# Altium integrated library Infineon_Power_IGBT.IntLib: 226 symbols (part 3 of 8)
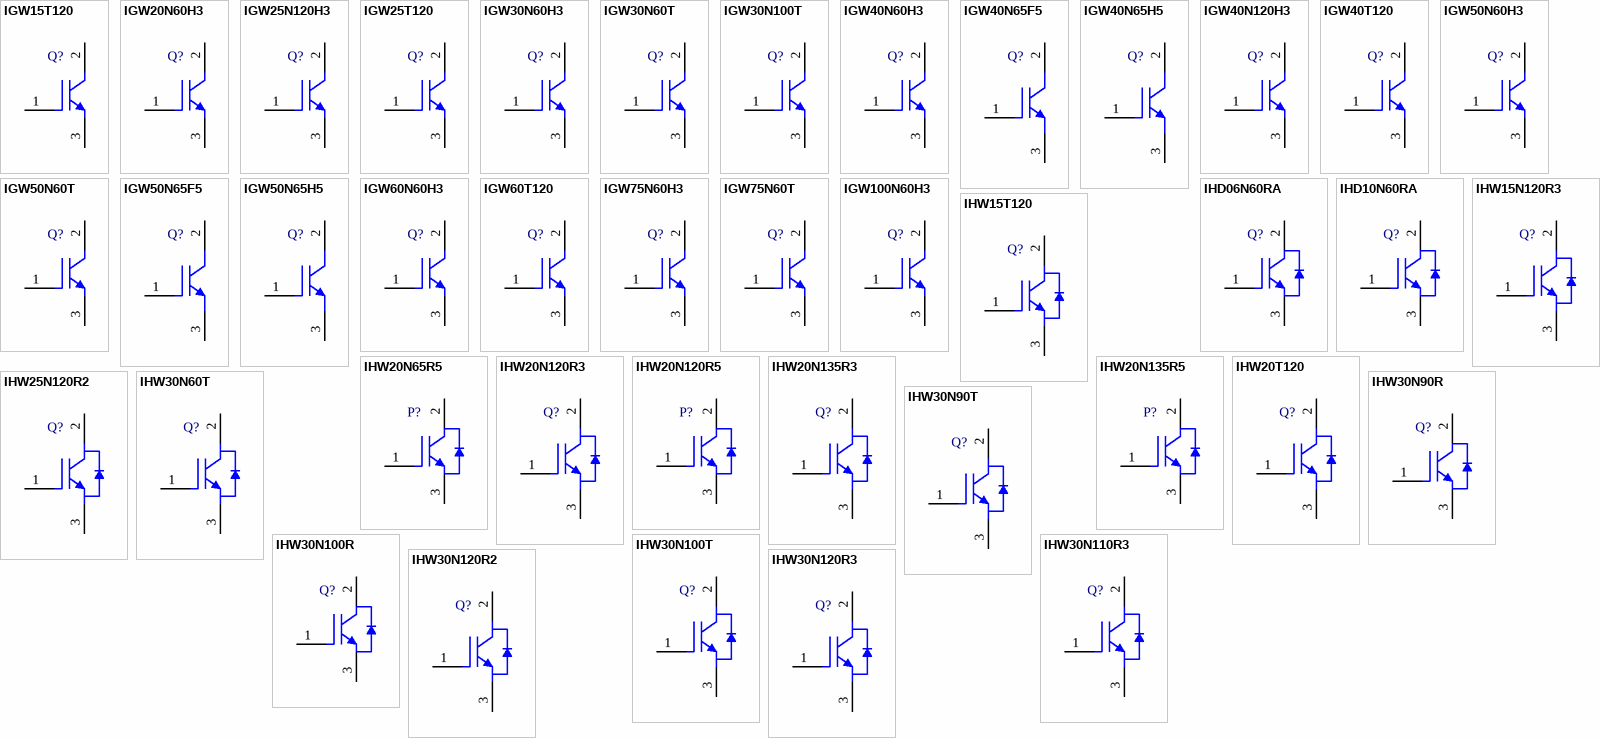
[diagram p7: symbols IGW15T120 to IHW30N120R3]

## IHW20T120
designator Q?
1200 V IGBT in TrenchStop and Fieldstop Technology with Soft, Fast Recovery Anti-Parallel EmCon HE Diode, 40 A IC, -40 to 150 degC, PG-TO247-3-21, Tube, Green; Manufacturer: Infineon; PartNumber: IHW20T120; Eoff (typ): 1.5 mJ; Eon (typ): 1.8 mJ; Green: TRUE; IC(max) @ 100degrees: 20 A; IC(max) @ 25degrees: 40 A; ICpuls (max): 60 A; IF (max): 23 A; IFpuls (max): 36 A; Irrm (typ): 13.3 A; Ptot (max): 178 W; QGate (typ): 120 nC; Qrr (typ): 950 nC; Switching Frequency: RC Soft Switching Series 8-60 kHz; td(off) (typ): 560 ns; td(on) (typ): 50 ns; tf (typ): 70 ns; tr (typ): 30 ns; VCE (max): 1,200 V; VCE(sat) (typ): 1.7 V; DatasheetVersion: Rev. 2.2; PackageVersion: Oct-07; PackageReference: PG-TO247-3-21; PackageDescription: 3-Pin Plastic (Green) Transistor Single Outline Package, 15.87 x 20.96 mm Body, 5.44 mm Pitch; Supplier 1: Mouser; Supplier Part Number 1: 726-IHW20T120; Supplier 2: Digi-Key; Supplier Part Number 2: IHW20T120-ND; Halogen-free: available; Packing: Tube; VF (typ): 1.7 V; Mounting Technology: Through Hole; ComponentLink1Description: Manufacturer URL; ComponentLink1URL: http://www.infineon.com/; ComponentLink2Description: Datasheet; ComponentLink2URL: http://www.infineon.com/dgdl/IHW20T120_D09_Rev2_2G.pdf?folderId=db3a304412b407950112b408e8c90004&fileId=db3a304412b407950112b4272af63bc3&location=en.Products.IGBTs.IGBT_with_Anti-Parallel_Diode.TRENCHSTOP__IGBT_for_Soft_Switching.DATASHEET.IHW20T120_D09_Rev2_2G.pdf; ComponentLink3Description: Package Specification; ComponentLink3URL: http://www.infineon.com/dgdl/DS_IK30N100T_1_1.pdf?folderId=db3a304412b407950112b408e8c90004&fileId=db3a304316f66ee80116f7b6e3920050&location=en.Products.IGBTs.IGBT_with_Anti-Parallel_Diode.TRENCHSTOP__IGBT_for_Hard_Switching.DATASHEET.DS_IK30N100T_1_1.pdf
footprint INF-PG-TO247-3-21 (FM, 3-Leads, Body 5.03x15.87mm, Pitch 5.44mm)
pins: 1 G, 2 C, 3 E

## IHW25N120R2
designator Q?
1200 V Reverse Conducting IGBT with Monolithic Body Diode, 50 A IC, -40 to 175 degC, PG-TO247-3-44, Tube, Green; Manufacturer: Infineon; PartNumber: IHW25N120R2; Eoff (typ): 1.59 mJ; Green: TRUE; IC(max) @ 100degrees: 25 A; IC(max) @ 25degrees: 50 A; ICpuls (max): 75 A; Ptot (max): 365 W; QGate (typ): 60.7 nC; Switching Frequency: RC Soft Switching Series 8-60 kHz; td(off) (typ): 324 ns; tf (typ): 55.8 ns; VCE (max): 1,200 V; VCE(sat) (typ): 1.6 V; VF (typ): 1.5 V; DatasheetVersion: Rev. 2.3; PackageVersion: Rev. 03; PackageReference: PG-TO247-3-44; PackageDescription: 3-Pin Plastic (Green) Transistor Single Outline Package, 15.94 x 20.95 mm Body, 5.44 mm Pitch; Supplier 1: Mouser; Supplier Part Number 1: 726-IHW25N120R2; Supplier 2: Digi-Key; Supplier Part Number 2: IHW25N120R2-ND; Halogen-free: available; IF (max): 50 A; IFpuls (max): 75 A; Packing: Tube; Mounting Technology: Through Hole; ComponentLink1Description: Manufacturer URL; ComponentLink1URL: http://www.infineon.com/; ComponentLink2Description: Datasheet; ComponentLink2URL: http://www.infineon.com/dgdl/IHW25N120R2_Rev2_3G.pdf?folderId=db3a304412b407950112b408e8c90004&fileId=db3a304412b407950112b428a7573e45&location=en.Products.IGBTs.IGBT_with_Anti-Parallel_Diode.TRENCHSTOP__IGBT_for_Soft_Switching.DATASHEET.IHW25N120R2_Rev2_3G.pdf; ComponentLink3Description: Package Specification; ComponentLink3URL: http://www.infineon.com/cms/packages/Leaded_and_through-hole/P-PG-TO247/P-PG-TO247-3-44.html?__locale=en
footprint INF-PG-TO247-3-44 (FM, 3-Leads, Body 5.02x15.94mm, Pitch 5.44mm)
pins: 1 G, 2 C, 3 E

## IHW30N60T
designator Q?
600 V IGBT in TrenchStop Technology with Optimised Diode, 60 A IC, -40 to 175 degC, PG-TO247-3-44, Tube, Green; Manufacturer: Infineon; PartNumber: IHW30N60T; Eoff (typ): 0.77 mJ; Green: TRUE; IC(max) @ 100degrees: 30 A; IC(max) @ 25degrees: 60 A; ICpuls (max): 90 A; IF (max): 23 A; Ptot (max): 187 W; QGate (typ): 167 nC; Switching Frequency: TRENCHSTOP 2-20kHz; td(off) (typ): 254 ns; td(on) (typ): 23 ns; tf (typ): 46 ns; tr (typ): 21 ns; VCE (max): 600 V; VCE(sat) (typ): 1.5 V; VF (typ): 1.1 V; DatasheetVersion: Rev. 2.2; PackageVersion: Rev. 03; PackageReference: PG-TO247-3-44; PackageDescription: 3-Pin Plastic (Green) Transistor Single Outline Package, 15.94 x 20.95 mm Body, 5.44 mm Pitch; Supplier 1: Mouser; Supplier Part Number 1: 726-IHW30N60T; Supplier 2: Digi-Key; Supplier Part Number 2: IHW30N60T-ND; Halogen-free: available; IFpuls (max): 30 A; Packing: Tube; Mounting Technology: Through Hole; ComponentLink1Description: Manufacturer URL; ComponentLink1URL: http://www.infineon.com/; ComponentLink2Description: Datasheet; ComponentLink2URL: http://www.infineon.com/dgdl/IHW30N60T-D10+Rev2_2.pdf?folderId=db3a304412b407950112b408e8c90004&fileId=db3a304412b407950112b428baac3e61; ComponentLink3Description: Package Specification; ComponentLink3URL: http://www.infineon.com/cms/packages/Leaded_and_through-hole/P-PG-TO247/P-PG-TO247-3-44.html?__locale=en
footprint INF-PG-TO247-3-44 (FM, 3-Leads, Body 5.02x15.94mm, Pitch 5.44mm)
pins: 1 G, 2 C, 3 E

## IHW30N90R
designator Q?
Reverse Conducting IGBT with Monolithic Body Diode, PG-TO247-3-21, Tube, Green; Manufacturer: Infineon; PartNumber: IHW30N90R; Green: TRUE; IC(max) @ 100 degC: 30 A; IC(max) @ 25 degC: 60 A; Switching Frequency: RC Soft Switching Series 8-60 kHz; VCE (max): 900 V; VCE(sat) (typ): 1.7 V; DatasheetVersion: Rev. 2.2; PackageVersion: Oct-07; PackageReference: PG-TO247-3-21; PackageDescription: 3-Pin Plastic (Green) Transistor Single Outline Package, 15.87 x 20.96 mm Body, 5.44 mm Pitch; Supplier 1: Mouser; Supplier Part Number 1: 726-IHW30N90R; Supplier 2: Digi-Key; Supplier Part Number 2: IHW30N90R-ND; Halogen-free: FALSE; Packing: Tube; Mounting Technology: Through Hole; ComponentLink1Description: Manufacturer URL; ComponentLink1URL: http://www.infineon.com/; ComponentLink2Description: Datasheet; ComponentLink2URL: http://www.infineon.com/dgdl/IHW30N90R_Rev2_2.pdf?folderId=db3a304412b407950112b408e8c90004&fileId=db3a304412b407950112b428b5443e59&location=en.Products.IGBTs.IGBT_with_Anti-Parallel_Diode.TRENCHSTOP__IGBT_for_Soft_Switching.DATASHEET.IHW30N90R_Rev2_2.pdf; ComponentLink3Description: Package Specification; ComponentLink3URL: http://www.infineon.com/dgdl/DS_IK30N100T_1_1.pdf?folderId=db3a304412b407950112b408e8c90004&fileId=db3a304316f66ee80116f7b6e3920050&location=en.Products.IGBTs.IGBT_with_Anti-Parallel_Diode.TRENCHSTOP__IGBT_for_Hard_Switching.DATASHEET.DS_IK30N100T_1_1.pdf
footprint INF-PG-TO247-3-21 (FM, 3-Leads, Body 5.03x15.87mm, Pitch 5.44mm)
pins: 1 G, 2 C, 3 E

## IHW30N90T
designator Q?
900 V IGBT in TrenchStop and Fieldstop Technology with Anti-Parallel Diode, 60 A IC, -40 to 175 degC, PG-TO247-3-44, Tube, Green; Manufacturer: Infineon; PartNumber: IHW30N90T; Eoff (typ): 1.8 mJ; Green: TRUE; IC(max) @ 100degrees: 30 A; IC(max) @ 25degrees: 60 A; ICpuls (max): 90 A; IF (max): 23 A; IFpuls (max): 36 A; Ptot (max): 428 W; QGate (typ): 280 nC; Switching Frequency: TRENCHSTOP 2-20kHz; td(off) (typ): 556 ns; td(on) (typ): 45 ns; tf (typ): 29 ns; tr (typ): 26 ns; VCE (max): 900 V; VCE(sat) (typ): 1.5 V; VF (typ): 1.1 V; DatasheetVersion: Rev. 2.3; PackageVersion: Rev. 03; PackageReference: PG-TO247-3-44; PackageDescription: 3-Pin Plastic (Green) Transistor Single Outline Package, 15.94 x 20.95 mm Body, 5.44 mm Pitch; Supplier 1: Mouser; Supplier Part Number 1: 726-IHW30N90T; Supplier 2: Newark; Supplier Part Number 2: 13T9433; Supplier 3: Farnell; Supplier Part Number 3: 1832367; Supplier 4: Digi-Key; Supplier Part Number 4: IHW30N90T-ND; Halogen-free: available; Packing: Tube; Mounting Technology: Through Hole; ComponentLink1Description: Manufacturer URL; ComponentLink1URL: http://www.infineon.com/; ComponentLink2Description: Datasheet; ComponentLink2URL: http://www.infineon.com/dgdl/IHW30N90T_D10_Rev2_3.pdf?folderId=db3a304412b407950112b408e8c90004&fileId=db3a304412b407950112b428b7f93e5d&location=en.Products.IGBTs.IGBT_with_Anti-Parallel_Diode.TRENCHSTOP__IGBT_for_Soft_Switching.DATASHEET.IHW30N90T_D10_Rev2_3.pdf; ComponentLink3Description: Package Specification; ComponentLink3URL: http://www.infineon.com/cms/packages/Leaded_and_through-hole/P-PG-TO247/P-PG-TO247-3-44.html?__locale=en
footprint INF-PG-TO247-3-44 (FM, 3-Leads, Body 5.02x15.94mm, Pitch 5.44mm)
pins: 1 G, 2 C, 3 E

## IHW30N100R
designator Q?
Reverse Conducting IGBT with Monolithic Body Diode, PG-TO247-3-21, Tube, Green; Manufacturer: Infineon; PartNumber: IHW30N100R; Green: TRUE; IC(max) @ 100 degC: 30 A; IC(max) @ 25 degC: 60 A; Switching Frequency: RC Soft Switching Series 8-60 kHz; VCE (max): 1,000 V; VCE(sat) (typ): 1.75 V; DatasheetVersion: Rev. 2.2; PackageVersion: Oct-07; PackageReference: PG-TO247-3-21; PackageDescription: 3-Pin Plastic (Green) Transistor Single Outline Package, 15.87 x 20.96 mm Body, 5.44 mm Pitch; Supplier 1: Mouser; Supplier Part Number 1: 726-IHW30N100R; Supplier 2: Digi-Key; Supplier Part Number 2: IHW30N100R-ND; Halogen-free: FALSE; Packing: Tube; Mounting Technology: Through Hole; ComponentLink1Description: Manufacturer URL; ComponentLink1URL: http://www.infineon.com/; ComponentLink2Description: Datasheet; ComponentLink2URL: http://www.infineon.com/dgdl/IHW30N100R_Rev2_2.pdf?folderId=db3a304412b407950112b408e8c90004&fileId=db3a304412b407950112b428afd13e51&location=en.Products.IGBTs.IGBT_with_Anti-Parallel_Diode.TRENCHSTOP__IGBT_for_Soft_Switching.DATASHEET.IHW30N100R_Rev2_2.pdf; ComponentLink3Description: Package Specification; ComponentLink3URL: http://www.infineon.com/dgdl/DS_IK30N100T_1_1.pdf?folderId=db3a304412b407950112b408e8c90004&fileId=db3a304316f66ee80116f7b6e3920050&location=en.Products.IGBTs.IGBT_with_Anti-Parallel_Diode.TRENCHSTOP__IGBT_for_Hard_Switching.DATASHEET.DS_IK30N100T_1_1.pdf
footprint INF-PG-TO247-3-21 (FM, 3-Leads, Body 5.03x15.87mm, Pitch 5.44mm)
pins: 1 G, 2 C, 3 E

## IHW30N100T
designator Q?
1000 V IGBT in TrenchStop and Fieldstop Technology with Anti-Parallel Diode, 60 A IC, -40 to 175 degC, PG-TO247-3-44, Tube, Green; Manufacturer: Infineon; PartNumber: IHW30N100T; Eoff (typ): 1.6 mJ; Eon (typ): 2.1 mJ; Green: TRUE; IC(max) @ 100degrees: 30 A; IC(max) @ 25degrees: 60 A; ICpuls (max): 90 A; IF (max): 22 A; IFpuls (max): 36 A; Ptot (max): 412 W; QGate (typ): 217 nC; Switching Frequency: TRENCHSTOP 2-20kHz; td(off) (typ): 546 ns; td(on) (typ): 35 ns; tf (typ): 27 ns; tr (typ): 22 ns; VCE (max): 1,000 V; VCE(sat) (typ): 1.55 V; VF (typ): 1.1 V; DatasheetVersion: Rev. 2.7; PackageVersion: Rev. 03; PackageReference: PG-TO247-3-44; PackageDescription: 3-Pin Plastic (Green) Transistor Single Outline Package, 15.94 x 20.95 mm Body, 5.44 mm Pitch; Supplier 1: Mouser; Supplier Part Number 1: 726-IHW30N100T; Supplier 2: Digi-Key; Supplier Part Number 2: IHW30N100T-ND; Halogen-free: available; Packing: Tube; Mounting Technology: Through Hole; ComponentLink1Description: Manufacturer URL; ComponentLink1URL: http://www.infineon.com/; ComponentLink2Description: Datasheet; ComponentLink2URL: http://www.infineon.com/dgdl/IHW30N100T_Rev2_7.pdf?folderId=db3a304412b407950112b408e8c90004&fileId=db3a304412b407950112b428b2863e55&location=en.Products.IGBTs.IGBT_with_Anti-Parallel_Diode.TRENCHSTOP__IGBT_for_Soft_Switching.DATASHEET.IHW30N100T_Rev2_7.pdf; ComponentLink3Description: Package Specification; ComponentLink3URL: http://www.infineon.com/cms/packages/Leaded_and_through-hole/P-PG-TO247/P-PG-TO247-3-44.html?__locale=en
footprint INF-PG-TO247-3-44 (FM, 3-Leads, Body 5.02x15.94mm, Pitch 5.44mm)
pins: 1 G, 2 C, 3 E

## IHW30N110R3
designator Q?
1100 V Reverse Conducting IGBT with Monolithic Body Diode, 60 A IC, -40 to 175 degC, PG-TO247-3-44, Tube, Green; Manufacturer: Infineon; PartNumber: IHW30N110R3; Eoff (typ): 1.15 mJ; Green: TRUE; IC(max) @ 100degrees: 30 A; IC(max) @ 25degrees: 60 A; ICpuls (max): 90 A; Ptot (max): 333 W; QGate (typ): 180 nC; Switching Frequency: RC Soft Switching Series 8-60 kHz; td(off) (typ): 350 ns; tf (typ): 16 ns; VCE (max): 1,100 V; VCE(sat) (typ): 1.55 V; VF (typ): 1.35 V; DatasheetVersion: Rev. 1.3; PackageVersion: Rev. 03; PackageReference: PG-TO247-3-44; PackageDescription: 3-Pin Plastic (Green) Transistor Single Outline Package, 15.94 x 20.95 mm Body, 5.44 mm Pitch; Supplier 1: Mouser; Supplier Part Number 1: 726-IHW30N110R3; Supplier 2: Digi-Key; Supplier Part Number 2: IHW30N110R3-ND; Halogen-free: TRUE; IF (max): 60 A; IFpuls (max): 90 A; Packing: Tube; Mounting Technology: Through Hole; ComponentLink1Description: Manufacturer URL; ComponentLink1URL: http://www.infineon.com/; ComponentLink2Description: Datasheet; ComponentLink2URL: http://www.infineon.com/dgdl/DS_IHW30N110R3_1_3.pdf?folderId=db3a3043156fd5730115f56849b61941&fileId=db3a304327b897500127b963455e0089&location=en.Products.IGBTs.IGBT_with_Anti-Parallel_Diode.TRENCHSTOP__IGBT_for_Soft_Switching.DATASHEET.DS_IHW30N110R3_1_3.pdf; ComponentLink3Description: Package Specification; ComponentLink3URL: http://www.infineon.com/cms/packages/Leaded_and_through-hole/P-PG-TO247/P-PG-TO247-3-44.html?__locale=en
footprint INF-PG-TO247-3-44 (FM, 3-Leads, Body 5.02x15.94mm, Pitch 5.44mm)
pins: 1 G, 2 C, 3 E

## IHW30N120R2
designator Q?
1200 V Reverse Conducting IGBT with Monolithic Body Diode, 60 A IC, -40 to 175 degC, PG-TO247-3-44, Tube, Green; Manufacturer: Infineon; PartNumber: IHW30N120R2; Eoff (typ): 2.4 mJ; Green: TRUE; IC(max) @ 100degrees: 30 A; IC(max) @ 25degrees: 60 A; ICpuls (max): 90 A; Ptot (max): 390 W; QGate (typ): 198 nC; Switching Frequency: RC Soft Switching Series 8-60 kHz; td(off) (typ): 792 ns; tf (typ): 33 ns; VCE (max): 1,200 V; VCE(sat) (typ): 1.65 V; VF (typ): 1.55 V; DatasheetVersion: Rev. 1.5; PackageVersion: Rev. 03; PackageReference: PG-TO247-3-44; PackageDescription: 3-Pin Plastic (Green) Transistor Single Outline Package, 15.94 x 20.95 mm Body, 5.44 mm Pitch; Supplier 1: Mouser; Supplier Part Number 1: 726-IHW30N120R2; Supplier 2: Digi-Key; Supplier Part Number 2: IHW30N120R2-ND; Halogen-free: available; IF (max): 60 A; IFpuls (max): 90 A; Packing: Tube; Mounting Technology: Through Hole; ComponentLink1Description: Manufacturer URL; ComponentLink1URL: http://www.infineon.com/; ComponentLink2Description: Datasheet; ComponentLink2URL: http://www.infineon.com/dgdl/IHW30N120R2_Rev1_5G.pdf?folderId=db3a304412b407950112b408e8c90004&fileId=db3a304412b407950112b428aa6e3e49&location=en.Products.IGBTs.IGBT_with_Anti-Parallel_Diode.TRENCHSTOP__IGBT_for_Soft_Switching.DATASHEET.IHW30N120R2_Rev1_5G.pdf; ComponentLink3Description: Package Specification; ComponentLink3URL: http://www.infineon.com/cms/packages/Leaded_and_through-hole/P-PG-TO247/P-PG-TO247-3-44.html?__locale=en
footprint INF-PG-TO247-3-44 (FM, 3-Leads, Body 5.02x15.94mm, Pitch 5.44mm)
pins: 1 G, 2 C, 3 E

## IHW30N120R3
designator Q?
1200 V Reverse Conducting IGBT with Monolithic Body Diode, 60 A IC, -40 to 175 degC, PG-TO247-3-44, Tube, Green; Manufacturer: Infineon; PartNumber: IHW30N120R3; Eoff (typ): 1.47 mJ; Green: TRUE; IC(max) @ 100degrees: 30 A; IC(max) @ 25degrees: 60 A; ICpuls (max): 90 A; Ptot (max): 349 W; QGate (typ): 263 nC; Switching Frequency: RC Soft Switching Series 8-60 kHz; td(off) (typ): 326 ns; tf (typ): 39 ns; VCE (max): 1,200 V; VCE(sat) (typ): 1.55 V; VF (typ): 1.6 V; DatasheetVersion: Rev. 2.2; PackageVersion: Rev. 03; PackageReference: PG-TO247-3-44; PackageDescription: 3-Pin Plastic (Green) Transistor Single Outline Package, 15.94 x 20.95 mm Body, 5.44 mm Pitch; Halogen-free: available; IF (max): 60 A; IFpuls (max): 90 A; Packing: Tube; Mounting Technology: Through Hole; ComponentLink1Description: Manufacturer URL; ComponentLink1URL: http://www.infineon.com/; ComponentLink2Description: Datasheet; ComponentLink2URL: http://www.infineon.com/dgdl/DS_IHW30N120R3_2_2.pdf?folderId=db3a3043156fd5730115f56849b61941&fileId=db3a30433a047ba0013a731f0e923aa7&location=en.Products.IGBTs.IGBT_with_Anti-Parallel_Diode.TRENCHSTOP__IGBT_for_Soft_Switching.DATASHEET.DS_IHW30N120R3_2_2.pdf; ComponentLink3Description: Package Specification; ComponentLink3URL: http://www.infineon.com/cms/packages/Leaded_and_through-hole/P-PG-TO247/P-PG-TO247-3-44.html?__locale=en
footprint INF-PG-TO247-3-44 (FM, 3-Leads, Body 5.02x15.94mm, Pitch 5.44mm)
pins: 1 G, 2 C, 3 E

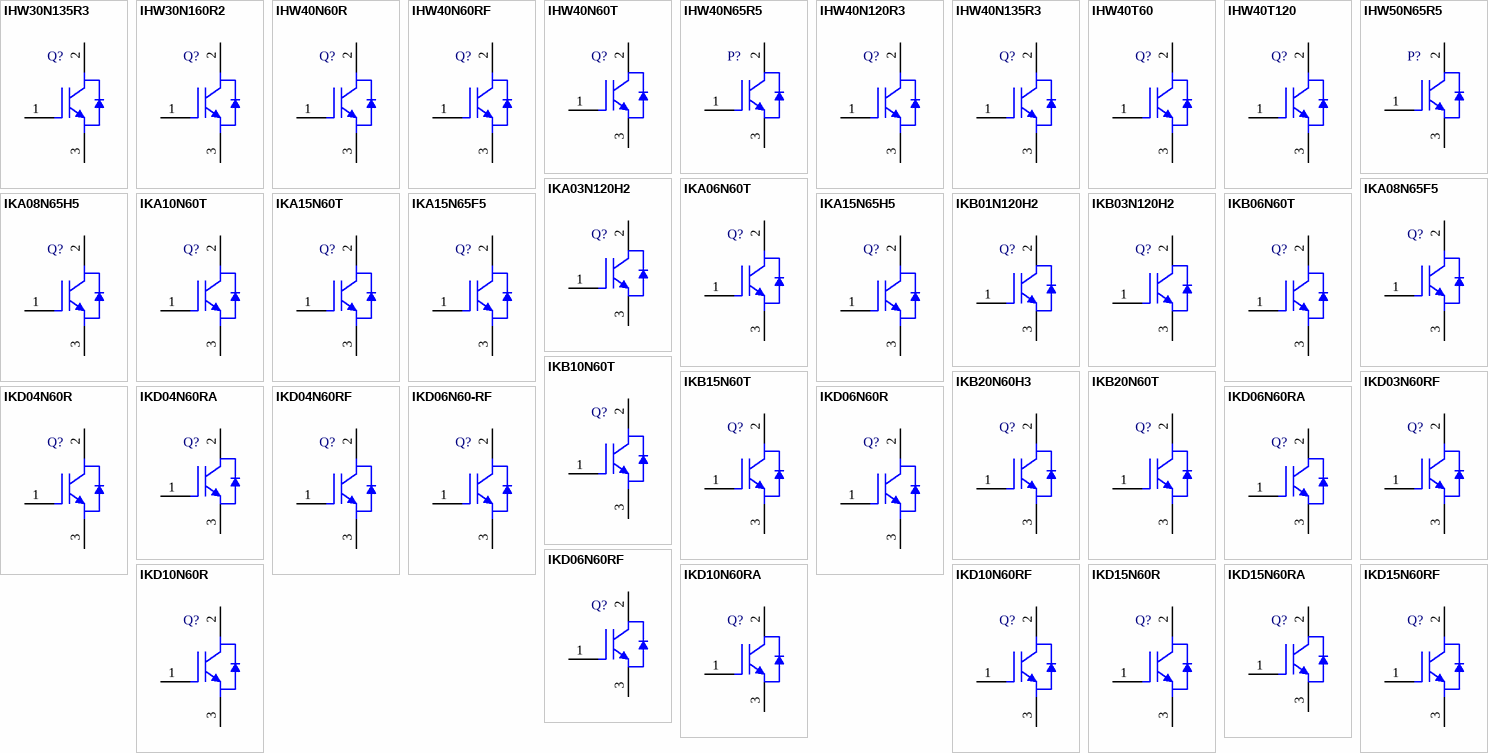
[diagram p2: symbols IHW30N135R3 to IKD15N60RF]

## IHW30N135R3
designator Q?
1350 V Reverse Conducting IGBT with Monolithic Body Diode, 60 A IC, -40 to 175 degC, PG-TO247-3-44, Tube, Green; Manufacturer: Infineon; PartNumber: IHW30N135R3; Eoff (typ): 1.93 mJ; Green: TRUE; IC(max) @ 100degrees: 30 A; IC(max) @ 25degrees: 60 A; ICpuls (max): 90 A; Ptot (max): 349 W; QGate (typ): 263 nC; Switching Frequency: RC Soft Switching Series 8-60 kHz; td(off) (typ): 337 ns; tf (typ): 47 ns; VCE (max): 1,350 V; VCE(sat) (typ): 1.65 V; DatasheetVersion: Rev. 2.1; PackageVersion: Rev. 03; PackageReference: PG-TO247-3-44; PackageDescription: 3-Pin Plastic (Green) Transistor Single Outline Package, 15.94 x 20.95 mm Body, 5.44 mm Pitch; Halogen-free: available; IF (max): 60 A; IFpuls (max): 90 A; Packing: Tube; VF (typ): 1.65 V; Mounting Technology: Through Hole; ComponentLink1Description: Manufacturer URL; ComponentLink1URL: http://www.infineon.com/; ComponentLink2Description: Datasheet; ComponentLink2URL: http://www.infineon.com/dgdl/DS_IHW30N135R3_2_1.pdf?folderId=db3a3043156fd5730115f56849b61941&fileId=db3a30433a047ba0013a7314865a3a88&location=en.Products.IGBTs.IGBT_with_Anti-Parallel_Diode.TRENCHSTOP__IGBT_for_Soft_Switching.DATASHEET.DS_IHW30N135R3_2_1.pdf; ComponentLink3Description: Package Specification; ComponentLink3URL: http://www.infineon.com/cms/packages/Leaded_and_through-hole/P-PG-TO247/P-PG-TO247-3-44.html?__locale=en
footprint INF-PG-TO247-3-44 (FM, 3-Leads, Body 5.02x15.94mm, Pitch 5.44mm)
pins: 1 G, 2 C, 3 E

## IHW30N160R2
designator Q?
1600 V TrenchStop Reverse Conducting (RC-)IGBT with Monolithic Body Diode, 60 A IC, -40 to 175 degC, PG-TO247-3-44, Tube, Green; Manufacturer: Infineon; PartNumber: IHW30N160R2; Eoff (typ): 2.53 mJ; Green: TRUE; IC(max) @ 100degrees: 30 A; IC(max) @ 25degrees: 60 A; ICpuls (max): 90 A; Ptot (max): 312 W; QGate (typ): 94 nC; Switching Frequency: RC Soft Switching Series 8-60 kHz; td(off) (typ): 525 ns; tf (typ): 38.3 ns; VCE (max): 1,600 V; VCE(sat) (typ): 1.8 V; VF (typ): 1.65 V; DatasheetVersion: Rev. 2.1; PackageVersion: Rev. 03; PackageReference: PG-TO247-3-44; PackageDescription: 3-Pin Plastic (Green) Transistor Single Outline Package, 15.94 x 20.95 mm Body, 5.44 mm Pitch; Supplier 1: Mouser; Supplier Part Number 1: 726-IHW30N160R2; Supplier 2: Newark; Supplier Part Number 2: 13T9432; Supplier 3: Farnell; Supplier Part Number 3: 1832388; Supplier 4: Digi-Key; Supplier Part Number 4: IHW30N160R2-ND; Halogen-free: available; IF (max): 60 A; IFpuls (max): 90 A; Packing: Tube; Mounting Technology: Through Hole; ComponentLink1Description: Manufacturer URL; ComponentLink1URL: http://www.infineon.com/; ComponentLink2Description: Datasheet; ComponentLink2URL: http://www.infineon.com/dgdl/IHW30N160R2_Rev2_1G.pdf?folderId=db3a304412b407950112b408e8c90004&fileId=db3a304412b407950112b428c03e3e69&location=en.Products.IGBTs.IGBT_with_Anti-Parallel_Diode.TRENCHSTOP__IGBT_for_Soft_Switching.DATASHEET.IHW30N160R2_Rev2_1G.pdf; ComponentLink3Description: Package Specification; ComponentLink3URL: http://www.infineon.com/cms/packages/Leaded_and_through-hole/P-PG-TO247/P-PG-TO247-3-44.html?__locale=en
footprint INF-PG-TO247-3-44 (FM, 3-Leads, Body 5.02x15.94mm, Pitch 5.44mm)
pins: 1 G, 2 C, 3 E

## IHW40N60R
designator Q?
600 V Reverse Conducting IGBT, 80 A IC, -40 to 175 degC, PG-TO247-3-44, Tube, Green; Manufacturer: Infineon; PartNumber: IHW40N60R; Eoff (typ): 0.75 mJ; Green: TRUE; IC(max) @ 100degrees: 40 A; IC(max) @ 25degrees: 80 A; ICpuls (max): 120 A; Ptot (max): 305 W; QGate (typ): 223 nC; Switching Frequency: RC Soft Switching Series 8-60 kHz; td(off) (typ): 193 ns; tf (typ): 24 ns; VCE (max): 600 V; VCE(sat) (typ): 1.65 V; DatasheetVersion: Rev. 2.4; PackageVersion: Rev. 03; PackageReference: PG-TO247-3-44; PackageDescription: 3-Pin Plastic (Green) Transistor Single Outline Package, 15.94 x 20.95 mm Body, 5.44 mm Pitch; Supplier 1: Mouser; Supplier Part Number 1: 726-IHW40N60R; Supplier 2: Newark; Supplier Part Number 2: 13T9434; Supplier 3: Farnell; Supplier Part Number 3: 1832365; Supplier 4: Digi-Key; Supplier Part Number 4: IHW40N60R-ND; IF (max): 80 A; IFpuls (max): 120 A; Packing: Tube; VF (typ): 1.65 V; Mounting Technology: Through Hole; ComponentLink1Description: Manufacturer URL; ComponentLink1URL: http://www.infineon.com/; ComponentLink2Description: Datasheet; ComponentLink2URL: http://www.infineon.com/dgdl/IHW40N60R_2_4.pdf?folderId=db3a304412b407950112b408e8c90004&fileId=db3a304316f66ee80117545f8f30066f&location=en.Products.IGBTs.IGBT_with_Anti-Parallel_Diode.TRENCHSTOP__IGBT_for_Soft_Switching.DATASHEET.IHW40N60R_2_4.pdf; ComponentLink3Description: Package Specification; ComponentLink3URL: http://www.infineon.com/cms/packages/Leaded_and_through-hole/P-PG-TO247/P-PG-TO247-3-44.html?__locale=en
footprint INF-PG-TO247-3-44 (FM, 3-Leads, Body 5.02x15.94mm, Pitch 5.44mm)
pins: 1 G, 2 C, 3 E

## IHW40N60RF
designator Q?
600 V Reverse Conducting IGBT, 80 A IC, -40 to 175 degC, PG-TO247-3-44, Tube, Green; Manufacturer: Infineon; PartNumber: IHW40N60RF; Eoff (typ): 0.56 mJ; Green: TRUE; IC(max) @ 100degrees: 40 A; IC(max) @ 25degrees: 80 A; ICpuls (max): 120 A; Ptot (max): 305 W; QGate (typ): 220 nC; Switching Frequency: RC-Fast Soft Switching Series 20-100 kHz; td(off) (typ): 175 ns; tf (typ): 14 ns; VCE (max): 600 V; VCE(sat) (typ): 1.85 V; VF (typ): 1.75 V; DatasheetVersion: Rev. 2.3; PackageVersion: Rev. 03; PackageReference: PG-TO247-3-44; PackageDescription: 3-Pin Plastic (Green) Transistor Single Outline Package, 15.94 x 20.95 mm Body, 5.44 mm Pitch; Supplier 1: Mouser; Supplier Part Number 1: 726-IHW40N60RF; Supplier 2: Digi-Key; Supplier Part Number 2: IHW40N60RF-ND; Halogen-free: available; IF (max): 80 A; IFpuls (max): 120 A; Packing: Tube; Mounting Technology: Through Hole; ComponentLink1Description: Manufacturer URL; ComponentLink1URL: http://www.infineon.com/; ComponentLink2Description: Datasheet; ComponentLink2URL: http://www.infineon.com/dgdl/IHW40N60RF_ver2_3G.pdf?folderId=db3a3043156fd5730115f56849b61941&fileId=db3a3043271faefd01272867e39e4d58&location=en.Products.IGBTs.IGBT_with_Anti-Parallel_Diode.TRENCHSTOP__IGBT_for_Soft_Switching.DATASHEET.IHW40N60RF_ver2_3G.pdf; ComponentLink3Description: Package Specification; ComponentLink3URL: http://www.infineon.com/cms/packages/Leaded_and_through-hole/P-PG-TO247/P-PG-TO247-3-44.html?__locale=en
footprint INF-PG-TO247-3-44 (FM, 3-Leads, Body 5.02x15.94mm, Pitch 5.44mm)
pins: 1 G, 2 C, 3 E

## IHW40N60T
designator Q?
IGBT in TrenchStop -Technology with Anti-Parallel Diode, PG-TO247-3-21, Tube, Green; Manufacturer: Infineon; PartNumber: IHW40N60T; Green: TRUE; IC(max) @ 100 degC: 40 A; IC(max) @ 25 degC: 80 A; Switching Frequency: TRENCHSTOP(TM) 2-20kHz; VCE (max): 600 V; VCE(sat) (typ): 1.55 V; DatasheetVersion: Rev. 2.3; PackageVersion: Oct-07; PackageReference: PG-TO247-3-21; PackageDescription: 3-Pin Plastic (Green) Transistor Single Outline Package, 15.87 x 20.96 mm Body, 5.44 mm Pitch; Supplier 1: Mouser; Supplier Part Number 1: 726-IHW40N60T; Halogen-free: FALSE; Packing: Tube; Mounting Technology: Through Hole; ComponentLink1Description: Manufacturer URL; ComponentLink1URL: http://www.infineon.com/; ComponentLink2Description: Datasheet; ComponentLink2URL: http://www.infineon.com/dgdl/IHW40N60T-D20+Rev2_3.pdf?folderId=db3a304412b407950112b408e8c90004&fileId=db3a304412b407950112b428bd6d3e65; ComponentLink3Description: Package Specification; ComponentLink3URL: http://www.infineon.com/dgdl/DS_IK30N100T_1_1.pdf?folderId=db3a304412b407950112b408e8c90004&fileId=db3a304316f66ee80116f7b6e3920050&location=en.Products.IGBTs.IGBT_with_Anti-Parallel_Diode.TRENCHSTOP__IGBT_for_Hard_Switching.DATASHEET.DS_IK30N100T_1_1.pdf
footprint INF-PG-TO247-3-21 (FM, 3-Leads, Body 5.03x15.87mm, Pitch 5.44mm)
pins: 1 G, 2 C, 3 E

## IHW40N65R5
designator P?
Reverse Conducting IGBT with Monolithic Body Diode, 650 V VCE, PG-TO247-3, Tube, Green; Manufacturer: Infineon; PartNumber: IHW40N65R5; Eoff (typ): 0.14 mJ; Eon (typ): 0.63 mJ; Green: TRUE; IC(max) @ 100degrees: 40 A; IC(max) @ 25degrees: 80 A; ICpuls (max): 120 A; Irrm (typ): 31 A; P tot (max): 230 W; QGate (typ): 193 nC; Qrr (typ): 1.95 uC; td(off) (typ): 258 ns; td(on) (typ): 30 ns; tf (typ): 9 ns; tr (typ): 11 ns; VCE (max): 650 V; VCE(sat) (typ): 1.35 V; VF (typ): 1.7 V; DatasheetVersion: Rev. 1.2; PackageVersion: Rev. 05, 07/2010; PackageReference: PG-TO247-3-44_A; PackageDescription: 3-Pin Plastic (Green) Transistor Single Outline Package, 15.915 x 20.95 mm Body, 5.44 mm Pitch; Halogen-free: TRUE; IF (max): 80 A; IFpuls (max): 120 A; Packing: Tube; Mounting Technology: Through Hole; ComponentLink1Description: Manufacturer URL; ComponentLink1URL: http://www.infineon.com/; ComponentLink2Description: Datasheet; ComponentLink2URL: http://www.infineon.com/dgdl/DS_IHW40N65R5_1_2.pdf?folderId=db3a3043156fd5730115f56849b61941&fileId=5546d461464245d30146adf2552300ab; ComponentLink3Description: Package Specification; ComponentLink3URL: http://www.infineon.com/dgdl/IJW120R070T1-final+datasheet+2+0.pdf?folderId=db3a304341e0aed0014203508c870e38&fileId=db3a304341e0aed0014203597c420ec5
footprint INF-PG-TO247-3-44_A (FM, 3-Leads, Body 15.915x5.02mm, Pitch 5.44mm)
pins: 1 G, 2 C, 3 E

## IHW40N120R3
designator Q?
1200 V Reverse Conducting IGBT with Monolithic Body Diode, 80 A IC, -40 to 175 degC, PG-TO247-3-44, Tube, Green; Manufacturer: Infineon; PartNumber: IHW40N120R3; Eoff (typ): 2.02 mJ; Green: TRUE; IC(max) @ 100degrees: 40 A; IC(max) @ 25degrees: 80 A; ICpuls (max): 120 A; Ptot (max): 429 W; QGate (typ): 335 nC; Switching Frequency: RC Soft Switching Series 8-60 kHz; td(off) (typ): 336 ns; tf (typ): 38 ns; VCE (max): 1,200 V; VCE(sat) (typ): 1.55 V; VF (typ): 1.6 V; DatasheetVersion: Rev. 2.1; PackageVersion: Rev. 03; PackageReference: PG-TO247-3-44; PackageDescription: 3-Pin Plastic (Green) Transistor Single Outline Package, 15.94 x 20.95 mm Body, 5.44 mm Pitch; Halogen-free: available; IF (max): 80 A; IFpuls (max): 120 A; Packing: Tube; Mounting Technology: Through Hole; ComponentLink1Description: Manufacturer URL; ComponentLink1URL: http://www.infineon.com/; ComponentLink2Description: Datasheet; ComponentLink2URL: http://www.infineon.com/dgdl/DS_IHW40N120R3_2_1.pdf?folderId=db3a3043156fd5730115f56849b61941&fileId=db3a30433a047ba0013a6e8aa8405fe2&location=en.Products.IGBTs.IGBT_with_Anti-Parallel_Diode.TRENCHSTOP__IGBT_for_Soft_Switching.DATASHEET.DS_IHW40N120R3_2_1.pdf; ComponentLink3Description: Package Specification; ComponentLink3URL: http://www.infineon.com/cms/packages/Leaded_and_through-hole/P-PG-TO247/P-PG-TO247-3-44.html?__locale=en
footprint INF-PG-TO247-3-44 (FM, 3-Leads, Body 5.02x15.94mm, Pitch 5.44mm)
pins: 1 G, 2 C, 3 E

## IHW40N135R3
designator Q?
1350 V Reverse Conducting IGBT with Monolithic Body Diode, 80 A IC, -40 to 175 degC, PG-TO247-3-44, Tube, Green; Manufacturer: Infineon; PartNumber: IHW40N135R3; Eoff (typ): 2.5 mJ; Green: TRUE; IC(max) @ 100degrees: 40 A; IC(max) @ 25degrees: 80 A; ICpuls (max): 120 A; Ptot (max): 429 W; QGate (typ): 365 nC; Switching Frequency: RC Soft Switching Series 8-60 kHz; td(off) (typ): 343 ns; tf (typ): 43 ns; VCE (max): 1,350 V; VCE(sat) (typ): 1.65 V; DatasheetVersion: Rev. 2.1; PackageVersion: Rev. 03; PackageReference: PG-TO247-3-44; PackageDescription: 3-Pin Plastic (Green) Transistor Single Outline Package, 15.94 x 20.95 mm Body, 5.44 mm Pitch; Halogen-free: available; IF (max): 80 A; IFpuls (max): 120 A; Packing: Tube; VF (typ): 1.65 V; Mounting Technology: Through Hole; ComponentLink1Description: Manufacturer URL; ComponentLink1URL: http://www.infineon.com/; ComponentLink2Description: Datasheet; ComponentLink2URL: http://www.infineon.com/dgdl/DS_IHW40N135R3_2_1.pdf?folderId=db3a3043156fd5730115f56849b61941&fileId=db3a30433a047ba0013a73070a6d3a69&location=en.Products.IGBTs.IGBT_with_Anti-Parallel_Diode.TRENCHSTOP__IGBT_for_Soft_Switching.DATASHEET.DS_IHW40N135R3_2_1.pdf; ComponentLink3Description: Package Specification; ComponentLink3URL: http://www.infineon.com/cms/packages/Leaded_and_through-hole/P-PG-TO247/P-PG-TO247-3-44.html?__locale=en
footprint INF-PG-TO247-3-44 (FM, 3-Leads, Body 5.02x15.94mm, Pitch 5.44mm)
pins: 1 G, 2 C, 3 E

## IHW40T60
designator Q?
600 V IGBT in TrenchStop Technology with Soft, Fast Recovery Anti-Parallel EmCon HE Diode, 80 A IC, -40 to 175 degC, PG-TO247-3-44, Tube, Green; Manufacturer: Infineon; PartNumber: IHW40T60; Eoff (typ): 0.92 mJ; Green: TRUE; IC(max) @ 100degrees: 40 A; IC(max) @ 25degrees: 80 A; ICpuls (max): 120 A; IF (max): 60 A; IFpuls (max): 90 A; Irrm (typ): 16.3 A; Ptot (max): 303 W; QGate (typ): 215 nC; Qrr (typ): 0.92 uC; Switching Frequency: TRENCHSTOP 2-20kHz; td(off) (typ): 186 ns; tf (typ): 66.3 ns; VCE (max): 600 V; VCE(sat) (typ): 1.55 V; VF (typ): 1.65 V; DatasheetVersion: Rev. 2.0; PackageVersion: Rev. 03; PackageReference: PG-TO247-3-44; PackageDescription: 3-Pin Plastic (Green) Transistor Single Outline Package, 15.94 x 20.95 mm Body, 5.44 mm Pitch; Supplier 1: Mouser; Supplier Part Number 1: 726-IHW40T60; Supplier 2: Newark; Supplier Part Number 2: 13T9436; Supplier 3: Farnell; Supplier Part Number 3: 1832366; Supplier 4: Digi-Key; Supplier Part Number 4: IHW40T60-ND; Packing: Tube; Mounting Technology: Through Hole; ComponentLink1Description: Manufacturer URL; ComponentLink1URL: http://www.infineon.com/; ComponentLink2Description: Datasheet; ComponentLink2URL: http://www.infineon.com/dgdl/IHW40T60_Rev2_0.pdf?folderId=db3a304412b407950112b408e8c90004&fileId=db3a304316f66ee80117543d566c0631&location=en.Products.IGBTs.IGBT_with_Anti-Parallel_Diode.TRENCHSTOP__IGBT_for_Soft_Switching.DATASHEET.IHW40T60_Rev2_0.pdf; ComponentLink3Description: Package Specification; ComponentLink3URL: http://www.infineon.com/cms/packages/Leaded_and_through-hole/P-PG-TO247/P-PG-TO247-3-44.html?__locale=en
footprint INF-PG-TO247-3-44 (FM, 3-Leads, Body 5.02x15.94mm, Pitch 5.44mm)
pins: 1 G, 2 C, 3 E

## IHW40T120
designator Q?
1200 V IGBT in TrenchStop and Fieldstop Technology with Soft, Fast Recovery Anti-Parallel EmCon HE Diode, 75 A IC, -40 to 150 degC, PG-TO247-3-44, Tube, Green; Manufacturer: Infineon; PartNumber: IHW40T120; Eoff (typ): 3.2 mJ; Eon (typ): 3.3 mJ; Green: TRUE; IC(max) @ 100degrees: 40 A; IC(max) @ 25degrees: 75 A; ICpuls (max): 105 A; IF (max): 31 A; IFpuls (max): 47 A; Irrm (typ): 20.2 A; Ptot (max): 270 W; QGate (typ): 203 nC; Qrr (typ): 1,880 nC; Switching Frequency: RC Soft Switching Series 8-60 kHz; td(off) (typ): 480 ns; td(on) (typ): 48 ns; tf (typ): 70 ns; tr (typ): 34 ns; VCE (max): 1,200 V; VCE(sat) (typ): 1.8 V; VF (typ): 1.65 V; DatasheetVersion: Rev. 2.3; PackageVersion: Rev. 03; PackageReference: PG-TO247-3-44; PackageDescription: 3-Pin Plastic (Green) Transistor Single Outline Package, 15.94 x 20.95 mm Body, 5.44 mm Pitch; Supplier 1: Mouser; Supplier Part Number 1: 726-IHW40T120; Supplier 2: Digi-Key; Supplier Part Number 2: IHW40T120-ND; Halogen-free: available; Packing: Tube; Mounting Technology: Through Hole; ComponentLink1Description: Manufacturer URL; ComponentLink1URL: http://www.infineon.com/; ComponentLink2Description: Datasheet; ComponentLink2URL: http://www.infineon.com/dgdl/IHW40T120_D18_Rev2_3G.pdf?folderId=db3a304412b407950112b408e8c90004&fileId=db3a304412b407950112b428ad1d3e4d&location=en.Products.IGBTs.IGBT_with_Anti-Parallel_Diode.TRENCHSTOP__IGBT_for_Soft_Switching.DATASHEET.IHW40T120_D18_Rev2_3G.pdf; ComponentLink3Description: Package Specification; ComponentLink3URL: http://www.infineon.com/cms/packages/Leaded_and_through-hole/P-PG-TO247/P-PG-TO247-3-44.html?__locale=en
footprint INF-PG-TO247-3-44 (FM, 3-Leads, Body 5.02x15.94mm, Pitch 5.44mm)
pins: 1 G, 2 C, 3 E

## IHW50N65R5
designator P?
Reverse Conducting IGBT with Monolithic Body Diode, 650 V VCE, PG-TO247-3, Tube, Green; Manufacturer: Infineon; PartNumber: IHW50N65R5; Eoff (typ): 0.18 mJ; Eon (typ): 0.74 mJ; Green: TRUE; IC(max) @ 100degrees: 50 A; IC(max) @ 25degrees: 80 A; ICpuls (max): 150 A; Irrm (typ): 35 A; P tot (max): 282 W; QGate (typ): 230 nC; Qrr (typ): 2.2 nC; td(off) (typ): 220 ns; td(on) (typ): 26 ns; tf (typ): 4 ns; tr (typ): 9 ns; VCE (max): 650 V; VCE(sat) (typ): 1.35 V; VF (typ): 1.7 V; DatasheetVersion: Rev. 1.2; PackageVersion: Rev. 05, 07/2010; PackageReference: PG-TO247-3-44_A; PackageDescription: 3-Pin Plastic (Green) Transistor Single Outline Package, 15.915 x 20.95 mm Body, 5.44 mm Pitch; Halogen-free: TRUE; IF (max): 80 A; IFpuls (max): 150 A; Packing: Tube; Mounting Technology: Through Hole; ComponentLink1Description: Manufacturer URL; ComponentLink1URL: http://www.infineon.com/; ComponentLink2Description: Datasheet; ComponentLink2URL: http://www.infineon.com/dgdl/DS_IHW50N65R5_1_2.pdf?folderId=db3a3043156fd5730115f56849b61941&fileId=5546d461464245d30146ae23713f0115; ComponentLink3Description: Package Specification; ComponentLink3URL: http://www.infineon.com/dgdl/IJW120R070T1-final+datasheet+2+0.pdf?folderId=db3a304341e0aed0014203508c870e38&fileId=db3a304341e0aed0014203597c420ec5
footprint INF-PG-TO247-3-44_A (FM, 3-Leads, Body 15.915x5.02mm, Pitch 5.44mm)
pins: 1 G, 2 C, 3 E

## IKA03N120H2
designator Q?
High Speed 2-Technology IGBT with Soft, Fast Recovery Anti-Parallel EmCon HE Diode, PG-TO-220-3-31, Tube, Green; Manufacturer: Infineon; PartNumber: IKA03N120H2; Green: TRUE; IC(max) @ 100 degC: 8.2 A; Switching Frequency: HighSpeed2 30-100 kHz; VCE (max): 1,200 V; VCE(sat) (typ): 2.2 V; DatasheetVersion: Rev. 2.2; PackageVersion: Jul-06; PackageReference: PG-TO-220-3-31; PackageDescription: 3-Pin Plastic (Green) Transistor Single Outline Package, 10.5 x 4.7 mm, 2.54 mm Pitch; Supplier 1: Mouser; Supplier Part Number 1: 726-IKA03N120H2; Supplier 2: Digi-Key; Supplier Part Number 2: IKA03N120H2-ND; Halogen-free: FALSE; Packing: Tube; Mounting Technology: Through Hole; ComponentLink1Description: Manufacturer URL; ComponentLink1URL: http://www.infineon.com/; ComponentLink2Description: Datasheet; ComponentLink2URL: http://www.infineon.com/dgdl/IKA03N120H2_Rev2_2G.pdf?folderId=db3a304412b407950112b408e8c90004&fileId=db3a304412b407950112b428518b3dcb; ComponentLink3Description: Package Specification; ComponentLink3URL: http://www.infineon.com/dgdl/IKA03N120H2_Rev2_2G.pdf?folderId=db3a304412b407950112b408e8c90004&fileId=db3a304412b407950112b428518b3dcb
footprint INF-PG-TO-220-3-31 (FM, 3-Leads, Body 10.5x4.7mm, Pitch 2.54mm)
pins: 1 G, 2 C, 3 E

## IKA06N60T
designator Q?
600 V IGBT in TrenchStop and Fieldstop Technology with Soft, Fast Recovery Anti-Parallel EmCon HE Diode, 10 A IC, -40 to 175 degC, PG-TO220-3-31, Tube, Green; Manufacturer: Infineon; PartNumber: IKA06N60T; Eoff (typ): 0.11 mJ; Eon (typ): 0.09 mJ; Green: TRUE; Group: IGBT with Anti-Parallel Diode; IC(max) @ 100degrees: 6.2 A; IC(max) @ 25degrees: 10 A; ICpuls (max): 18 A; IF (max): 10.2 A; Irrm (typ): 5.3 A; Ptot (max): 28 W; QGate (typ): 42 nC; Qrr (typ): 190 nC; Switching Frequency: TRENCHSTOP 2-20kHz; td(off) (typ): 130 ns; td(on) (typ): 9.4 ns; tf (typ): 58 ns; tr (typ): 5.6 ns; VCE (max): 600 V; VCE(sat) (typ): 1.5 V; VF (typ): 1.6 V; DatasheetVersion: Rev. 2.3; PackageVersion: Jan-07; PackageReference: PG-TO220-3-31; PackageDescription: 3-Pin Plastic (Green) Transistor Single Outline Package, 10.5 x 9.68 mm Body, 2.54 mm Pitch; Supplier 1: Mouser; Supplier Part Number 1: 726-IKA06N60T; Supplier 2: Digi-Key; Supplier Part Number 2: IKA06N60T-ND; IFpuls (max): 18 A; Packing: Tube; Mounting Technology: Through Hole; ComponentLink1Description: Manufacturer URL; ComponentLink1URL: http://www.infineon.com/; ComponentLink2Description: Datasheet; ComponentLink2URL: http://www.infineon.com/dgdl/IKA06N60T+Rev2_3G.pdf?folderId=db3a304412b407950112b408e8c90004&fileId=db3a304412b407950112b42868603dee; ComponentLink3Description: Package Specification; ComponentLink3URL: http://www.infineon.com/dgdl/IPA093N06N3_Rev2+0.pdf?folderId=db3a30431441fb5d01148ca9f1be0e77&fileId=db3a3043284aacd8012882bf84115438
footprint INF-PG-TO220-3-31 (FM, 3-Leads, Body 10.5x4.7mm, Pitch 2.54mm)
pins: 1 G, 2 C, 3 E

## IKA08N65F5
designator Q?
650 V DuoPack IGBT and Diode High Speed Switching Series Fifth Generation, 10.8 A IC, PG-TO220-3-111, Tube, Green; Manufacturer: Infineon; PartNumber: IKA08N65F5; Green: TRUE; Group: IGBT with Anti-Parallel Diode; IC(max)@ 100degrees: 6.8 A; IC(max)@ 25degrees: 10.8 A; ICpuls(max): 24 A; Irrm (typ): 6.6 A; Ptot(max): 31.2 W; Switching Frequency: TRENCHSTOP5 10-120 kHz; VCE(max): 650 V; VCE(sat)(typ): 1.6 V; DatasheetVersion: Rev. 1.1; PackageReference: PG-TO220-3-111; PackageDescription: 3-Pin Plastic (Green) Transistor Single Outline Package, Body 16 x 10.5 mm, Pitch 2.54 mm; Supplier 1: Newark; Supplier Part Number 1: 33X0403; Supplier 2: Farnell; Supplier Part Number 2: 2363281; Halogen-free: TRUE; Packing: Tube; Mounting Technology: Through Hole; ComponentLink1Description: Manufacturer URL; ComponentLink1URL: http://www.infineon.com/; ComponentLink2Description: Datasheet; ComponentLink2URL: http://www.infineon.com/dgdl/DS_IKA08N65F5_1_1.pdf?folderId=db3a3043156fd5730115f56849b61941&fileId=db3a30433af5291e013af92196985c58&location=en.Products.IGBTs.IGBT_with_Anti-Parallel_Diode.TRENCHSTOP_5.DATASHEET.DS_IKA08N65F5_1_1.pdf; ComponentLink3Description: Package Specification; ComponentLink3URL: http://www.infineon.com/cms/packages/Leaded_and_through-hole/P-PG-TO220/P-PG-TO220-3-111.html?__locale=en
footprint INF-PG-TO220-3-111_V (FM, 3-Leads, Body 10.5x9.68mm, Pitch 2.54mm, Recommended)
pins: 1 G, 2 C, 3 E

## IKA08N65H5
designator Q?
650 V DuoPack IGBT and Diode High Speed Switching Series Fifth Generation, 10.8 A IC, PG-TO220-3-111, Tube, Green; Manufacturer: Infineon; PartNumber: IKA08N65H5; Green: TRUE; Group: IGBT with Anti-Parallel Diode; IC(max)@ 100degrees: 6.8 A; IC(max)@ 25degrees: 10.8 A; ICpuls(max): 24 A; Ptot(max): 31.2 W; Switching Frequency: TRENCHSTOP5 10-120 kHz; VCE(max): 650 V; VCE(sat)(typ): 1.65 V; DatasheetVersion: Rev. 1.1; PackageReference: PG-TO220-3-111; PackageDescription: 3-Pin Plastic (Green) Transistor Single Outline Package, Body 16 x 10.5 mm, Pitch 2.54 mm; Supplier 1: Newark; Supplier Part Number 1: 33X0404; Supplier 2: Farnell; Supplier Part Number 2: 2363282; Halogen-free: TRUE; Irrm (typ): 6.8 A; Packing: Tube; Mounting Technology: Through Hole; ComponentLink1Description: Manufacturer URL; ComponentLink1URL: http://www.infineon.com/; ComponentLink2Description: Datasheet; ComponentLink2URL: http://www.infineon.com/dgdl/DS_IKA08N65H5_1_1.pdf?folderId=db3a3043156fd5730115f56849b61941&fileId=db3a30433af5291e013af95976745d19&location=en.Products.IGBTs.IGBT_with_Anti-Parallel_Diode.TRENCHSTOP_5.DATASHEET.DS_IKA08N65H5_1_1.pdf; ComponentLink3Description: Package Specification; ComponentLink3URL: http://www.infineon.com/cms/packages/Leaded_and_through-hole/P-PG-TO220/P-PG-TO220-3-111.html?__locale=en
footprint INF-PG-TO220-3-111_V (FM, 3-Leads, Body 10.5x9.68mm, Pitch 2.54mm, Recommended)
pins: 1 G, 2 C, 3 E

## IKA10N60T
designator Q?
600 V IGBT in TrenchStop and Fieldstop Technology with Soft, Fast Recovery Anti-Parallel EmCon HE Diode, 11.7 A IC, -40 to 175 degC, PG-TO220-3-31, Tube, Green; Manufacturer: Infineon; PartNumber: IKA10N60T; Eoff (typ): 0.27 mJ; Eon (typ): 0.16 mJ; Green: TRUE; Group: IGBT with Anti-Parallel Diode; IC(max) @ 100degrees: 7.2 A; IC(max) @ 25degrees: 11.7 A; ICpuls (max): 30 A; IF (max): 11.9 A; Irrm (typ): 10 A; Ptot (max): 30 W; QGate (typ): 62 nC; Qrr (typ): 0.38 uC; Switching Frequency: TRENCHSTOP 2-20kHz; td(off) (typ): 215 ns; td(on) (typ): 12 ns; tf (typ): 38 ns; tr (typ): 8 ns; VCE (max): 600 V; VCE(sat) (typ): 1.5 V; VF (typ): 1.6 V; DatasheetVersion: Rev. 2.3; PackageVersion: Jan-07; PackageReference: PG-TO220-3-31; PackageDescription: 3-Pin Plastic (Green) Transistor Single Outline Package, 10.5 x 9.68 mm Body, 2.54 mm Pitch; Supplier 1: Mouser; Supplier Part Number 1: 726-IKA10N60T; Supplier 2: Digi-Key; Supplier Part Number 2: IKA10N60T-ND; IFpuls (max): 30 A; Packing: Tube; Mounting Technology: Through Hole; ComponentLink1Description: Manufacturer URL; ComponentLink1URL: http://www.infineon.com/; ComponentLink2Description: Datasheet; ComponentLink2URL: http://www.infineon.com/dgdl/IKA10N60T+Rev2_3G.pdf?folderId=db3a304412b407950112b408e8c90004&fileId=db3a304412b407950112b428713e3dfa; ComponentLink3Description: Package Specification; ComponentLink3URL: http://www.infineon.com/dgdl/IPA093N06N3_Rev2+0.pdf?folderId=db3a30431441fb5d01148ca9f1be0e77&fileId=db3a3043284aacd8012882bf84115438
footprint INF-PG-TO220-3-31 (FM, 3-Leads, Body 10.5x4.7mm, Pitch 2.54mm)
pins: 1 G, 2 C, 3 E

## IKA15N60T
designator Q?
600 V IGBT in TrenchStop and Fieldstop Technology with Soft, Fast Recovery Anti-Parallel EmCon HE Diode, 14.7 A IC, -40 to 175 degC, PG-TO220-3-111, Tube, Green; Manufacturer: Infineon; PartNumber: IKA15N60T; Eoff (typ): 0.35 mJ; Eon (typ): 0.22 mJ; Green: TRUE; Group: IGBT with Anti-Parallel Diode; IC(max) @ 100degrees: 8.9 A; IC(max) @ 25degrees: 14.7 A; ICpuls (max): 45 A; IF (max): 15.5 A; Irrm (typ): 10.4 A; Ptot (max): 35.7 W; QGate (typ): 87 nC; Qrr (typ): 0.24 uC; Switching Frequency: TRENCHSTOP 2-20kHz; td(off) (typ): 188 ns; td(on) (typ): 17 ns; tf (typ): 50 ns; tr (typ): 11 ns; VCE (max): 600 V; VCE(sat) (typ): 1.5 V; VF (typ): 1.65 V; DatasheetVersion: Rev. 2.2; PackageReference: PG-TO220-3-111; PackageDescription: 3-Pin Plastic (Green) Transistor Single Outline Package, Body 16 x 10.5 mm, Pitch 2.54 mm; Supplier 1: Mouser; Supplier Part Number 1: 726-IKA15N60T; Supplier 2: Digi-Key; Supplier Part Number 2: IKA15N60T-ND; IFpuls (max): 45 A; Packing: Tube; Mounting Technology: Through Hole; ComponentLink1Description: Manufacturer URL; ComponentLink1URL: http://www.infineon.com/; ComponentLink2Description: Datasheet; ComponentLink2URL: http://www.infineon.com/dgdl/IKA15N60T+Rev2_3G.pdf?folderId=db3a304412b407950112b408e8c90004&fileId=db3a304412b407950112b4287a163e06; ComponentLink3Description: Package Specification; ComponentLink3URL: http://www.infineon.com/cms/packages/Leaded_and_through-hole/P-PG-TO220/P-PG-TO220-3-111.html?__locale=en
footprint INF-PG-TO220-3-111_V (FM, 3-Leads, Body 10.5x9.68mm, Pitch 2.54mm, Recommended)
pins: 1 G, 2 C, 3 E

## IKA15N65F5
designator Q?
650 V DuoPack IGBT and Diode High Speed Switching Series Fifth Generation, 14 A IC, PG-TO220-3-111, Tube, Green; Manufacturer: Infineon; PartNumber: IKA15N65F5; Green: TRUE; Group: IGBT with Anti-Parallel Diode; IC(max)@ 100degrees: 8.5 A; IC(max)@ 25degrees: 14 A; ICpuls(max): 45 A; Irrm (typ): 8 A; Ptot(max): 33.3 W; Switching Frequency: TRENCHSTOP5 10-120 kHz; VCE(max): 650 V; VCE(sat)(typ): 1.6 V; DatasheetVersion: Rev. 1.1; PackageReference: PG-TO220-3-111; PackageDescription: 3-Pin Plastic (Green) Transistor Single Outline Package, Body 16 x 10.5 mm, Pitch 2.54 mm; Supplier 1: Newark; Supplier Part Number 1: 33X0405; Supplier 2: Farnell; Supplier Part Number 2: 2363283; Halogen-free: TRUE; Packing: Tube; Mounting Technology: Through Hole; ComponentLink1Description: Manufacturer URL; ComponentLink1URL: http://www.infineon.com/; ComponentLink2Description: Datasheet; ComponentLink2URL: http://www.infineon.com/dgdl/DS_IKA15N65F5_1_1.pdf?folderId=db3a3043156fd5730115f56849b61941&fileId=db3a30433af5291e013af98304715d4b&location=en.Products.IGBTs.IGBT_with_Anti-Parallel_Diode.TRENCHSTOP_5.DATASHEET.DS_IKA15N65F5_1_1.pdf; ComponentLink3Description: Package Specification; ComponentLink3URL: http://www.infineon.com/cms/packages/Leaded_and_through-hole/P-PG-TO220/P-PG-TO220-3-111.html?__locale=en
footprint INF-PG-TO220-3-111_V (FM, 3-Leads, Body 10.5x9.68mm, Pitch 2.54mm, Recommended)
pins: 1 G, 2 C, 3 E

## IKA15N65H5
designator Q?
650 V DuoPack IGBT and Diode High Speed Switching Series Fifth Generation, 14 A IC, PG-TO220-3-111, Tube, Green; Manufacturer: Infineon; PartNumber: IKA15N65H5; Green: TRUE; Group: IGBT with Anti-Parallel Diode; IC(max)@ 100degrees: 8.5 A; IC(max)@ 25degrees: 14 A; ICpuls(max): 45 A; Irrm (typ): 8 A; Ptot(max): 33.3 W; Switching Frequency: TRENCHSTOP5 10-120 kHz; VCE(max): 650 V; VCE(sat)(typ): 1.65 V; DatasheetVersion: Rev. 1.1; PackageReference: PG-TO220-3-111; PackageDescription: 3-Pin Plastic (Green) Transistor Single Outline Package, Body 16 x 10.5 mm, Pitch 2.54 mm; Supplier 1: Newark; Supplier Part Number 1: 33X0406; Supplier 2: Farnell; Supplier Part Number 2: 2363284; Halogen-free: TRUE; Packing: Tube; Mounting Technology: Through Hole; ComponentLink1Description: Manufacturer URL; ComponentLink1URL: http://www.infineon.com/; ComponentLink2Description: Datasheet; ComponentLink2URL: http://www.infineon.com/dgdl/DS_IKA15N65H5_1_1.pdf?folderId=db3a3043156fd5730115f56849b61941&fileId=db3a30433af5291e013af9937b565d76&location=en.Products.IGBTs.IGBT_with_Anti-Parallel_Diode.TRENCHSTOP_5.DATASHEET.DS_IKA15N65H5_1_1.pdf; ComponentLink3Description: Package Specification; ComponentLink3URL: http://www.infineon.com/cms/packages/Leaded_and_through-hole/P-PG-TO220/P-PG-TO220-3-111.html?__locale=en
footprint INF-PG-TO220-3-111_V (FM, 3-Leads, Body 10.5x9.68mm, Pitch 2.54mm, Recommended)
pins: 1 G, 2 C, 3 E

## IKB01N120H2
designator Q?
High Speed 2-Technology IGBT with Soft, Fast Recovery Anti-Parallel EmCon HE Diode, P-TO-220-3-45, Reel, Green; Manufacturer: Infineon; PartNumber: IKB01N120H2; Green: TRUE; IC(max) @ 100 degC: 1.3 A; IC(max) @ 25 degC: 3.2 A; Switching Frequency: HighSpeed2 30-100 kHz; VCE (max): 1,200 V; VCE(sat) (typ): 2.2 V; DatasheetVersion: Rev. 2.3; PackageVersion: May-06; PackageReference: P-TO-220-3-45; PackageDescription: 3-Pin Plastic Transistor Single Outline Package, Body 9.2 x 9.9 mm, Pitch 2.54 mm; Supplier 1: Mouser; Supplier Part Number 1: 726-IKB01N120H2; Halogen-free: FALSE; Packing: Reel; Mounting Technology: Surface Mount; ComponentLink1Description: Manufacturer URL; ComponentLink1URL: http://www.infineon.com/; ComponentLink2Description: Datasheet; ComponentLink2URL: http://www.infineon.com/dgdl/IKB01N120H2_Rev2_3.pdf?folderId=db3a304412b407950112b408e8c90004&fileId=db3a304412b407950112b4284c513dc3; ComponentLink3Description: Package Specification; ComponentLink3URL: http://www.infineon.com/dgdl/IKB01N120H2_Rev2_3.pdf?folderId=db3a304412b407950112b408e8c90004&fileId=db3a304412b407950112b4284c513dc3
footprint INF-P-TO-220-3-45_N (DPAK, 3-Leads, Body 9.9x9.2mm, Pitch 2.54mm, IPC Medium Density)
footprint INF-P-TO-220-3-45_L (DPAK, 3-Leads, Body 9.9x9.2mm, Pitch 2.54mm, IPC High Density)
footprint INF-P-TO-220-3-45_M (DPAK, 3-Leads, Body 9.9x9.2mm, Pitch 2.54mm, IPC Low Density)
pins: 1 G, 2 C, 3 E

## IKB03N120H2
designator Q?
High Speed 2-Technology IGBT with Soft, Fast Recovery Anti-Parallel EmCon HE Diode, PG-TO263-3-2, Reel, Green; Manufacturer: Infineon; PartNumber: IKB03N120H2; Green: TRUE; IC(max) @ 100 degC: 3.9 A; IC(max) @ 25 degC: 9.6 A; Switching Frequency: HighSpeed2 30-100 kHz; VCE (max): 1,200 V; VCE(sat) (typ): 2.2 V; DatasheetVersion: Rev. 2.4; PackageVersion: Rev. 01, 08/2007; PackageReference: PG-TO263-3-2; PackageDescription: 3-Pin Plastic (Green) Transistor Single Outline Package, 10.1 x 8.98 mm Body, 2.54 mm Pitch; Supplier 1: Mouser; Supplier Part Number 1: 726-IKB03N120H2; Supplier 2: Digi-Key; Supplier Part Number 2: IKB03N120H2-ND; Halogen-free: TRUE; Packing: Reel; Mounting Technology: Surface Mount; ComponentLink1Description: Manufacturer URL; ComponentLink1URL: http://www.infineon.com/; ComponentLink2Description: Datasheet; ComponentLink2URL: http://www.infineon.com/dgdl/IKB03N120H2_Rev2_4.pdf?folderId=db3a304412b407950112b408e8c90004&fileId=db3a304412b407950112b42854753dcf; ComponentLink3Description: Package Specification; ComponentLink3URL: http://www.infineon.com/dgdl/SPB80P06P+G_Rev+1.6_.pdf?folderId=db3a304412b407950112b408e8c90004&fileId=db3a304412b407950112b42add964408
footprint INF-PG-TO263-3-2_A_N (DPAK, 3-Leads, Body 10.1x8.98mm, Pitch 2.54mm, IPC Medium Density)
footprint INF-PG-TO263-3-2_A_L (DPAK, 3-Leads, Body 10.1x8.98mm, Pitch 2.54mm, IPC High Density)
footprint INF-PG-TO263-3-2_A_M (DPAK, 3-Leads, Body 10.1x8.98mm, Pitch 2.54mm, IPC Low Density)
pins: 1 G, 2 C, 3 E